# EAGLE library part ASC8511 (library micwl)
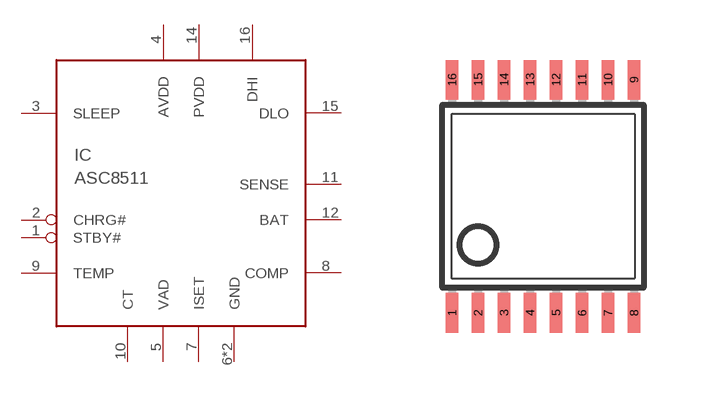
[diagram p5: symbol with the pads of TSSOP16; footprint TSSOP16]

Designator prefix IC

## ASC8511  [TSSOP16]
1  STBY#  out
2  CHRG#  out
3  SLEEP  in
4  AVDD  pwr
5  VAD  in
6  GND  pwr
7  ISET  out
8  COMP
9  TEMP  in
10  CT
11  SENSE  in
12  BAT  in
13  GND  pwr
14  PVDD  pwr
15  DLO  out
16  DHI  out

## Footprint TSSOP16 (pad centres in mm)
Thin Shrink Small Outline Plastic 16 MAX3223-MAX3243.pdf
smd 0.305 x 0.991: 1 -2.275,-2.918; 2 -1.625,-2.918; 3 -0.975,-2.918; 4 -0.325,-2.918; 5 0.325,-2.918; 6 0.975,-2.918; 7 1.625,-2.918; 8 2.275,-2.918; 9 2.275,2.918; 10 1.625,2.918; 11 0.975,2.918; 12 0.325,2.918; 13 -0.325,2.918; 14 -0.975,2.918; 15 -1.625,2.918; 16 -2.275,2.918